# Altium integrated library BC817W.IntLib: 1 symbol
Pins are listed as number, name and electrical type; pins without a type are passive.

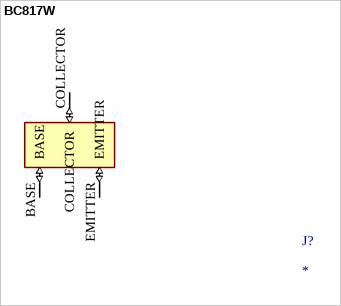
[diagram p0: symbol BC817W]

## BC817W
designator J?
MP: BC817W; Package: None; Price: None; Value: *; Availability: Unavailable
footprint SOT323
pins: BASE (io), COLLECTOR (io), EMITTER (io)